# Altium schematic symbol library CPC.SchLib: 10 symbols
Pins are listed as number, name and electrical type; pins without a type are passive.

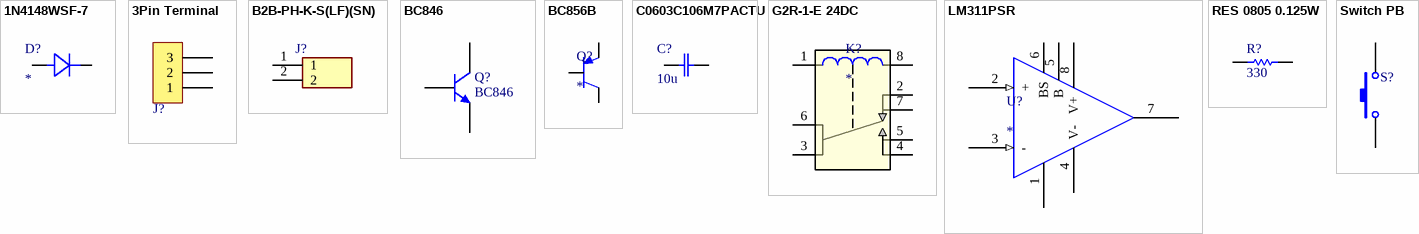
[diagram p0: symbols 1N4148WSF-7 to Switch PB]

## 1N4148WSF-7
designator D?
No Description Available; Mfr_Name: Diodes Inc; ComponentLink1Description: ickala; ComponentLink1URL: https://ickala.com/standard-diode/39398-1n4148ws.html
footprint SOD323F_DIO-L
pins: 1, 2

## 3Pin Terminal
designator J?, comment 2Pin Terminal  (value not drawn)
Terminal; ComponentLink1Description: ickala; ComponentLink1URL: https://ickala.com/pluggable-terminal/44373-%D8%AA%D8%B1%D9%85%DB%8C%D9%86%D8%A7%D9%84-2-%D9%BE%DB%8C%DA%86.html
footprint KF301 2PIN (Designer Abbas Basereh)
pins: 1, 2, 3

## B2B-PH-K-S(LF)(SN)
designator J?  (value not drawn)
Connector Header Through Hole 2 position 0.079 (2.00mm); MF: JST; MP: B2B-PH-K-S (LF)(SN); SnapEDA_Link: https://www.snapeda.com/parts/B2B-PH-K-S%20(LF)(SN)/JST/view-part/?ref=snap; Package: None; Value: *; Check_prices: https://www.snapeda.com/parts/B2B-PH-K-S%20(LF)(SN)/JST/view-part/?ref=eda
footprint JST_B2B-PH-K-S(LF)(SN)
pins: 1, 2

## BC846
designator Q?
NPN General-purpose Transistor; Published: 2017-1-6; LatestRevisionDate: 12-Dec-2006; LatestRevisionNote: IPC-7351 Footprint Added.; DatasheetVersion: 4-Feb-2002; PackageVersion: 2017-1-6; PackageReference: SOT23; Publisher: Abbas Basereh; PackageDescription: 3-Pin SOT-23 Package 0.95 mm Pitch, 2.3 mm Lead Span; ComponentLink1Description: Manufacturer Link; ComponentLink1URL: http://www.semiconductors.philips.com/; ComponentLink2Description: Datasheet; ComponentLink2URL: http://www.semiconductors.philips.com/acrobat/datasheets/BC846_BC847_BC848_5.pdf
footprint SOT23_N (SOT23, 3-Leads, Body 2.9x1.3mm, Pitch 0.95mm, Lead Span 2.3mm, IPC Medium Density)
pins: 1 B, 2 E, 3 C

## BC856B
designator Q?
Bipolar (BJT) Transistor Array 2 PNP (Dual) 65V 100mA 100MHz 300mW Surface Mount 6-TSSOP; MF: Nexperia USA; MP: BC856B; SnapEDA_Link: https://www.snapeda.com/parts/BC856B/Nexperia/view-part/?ref=snap; Package: SOT-23-3 Motorola; Value: *; Check_prices: https://www.snapeda.com/parts/BC856B/Nexperia/view-part/?ref=eda
footprint SOT95P230X110-3N
pins: 1 B, 2 E, 3 C

## C0603C106M7PACTU
designator C?, comment 10u
No Description Available; Mfr_Name: Kemet; ComponentLink1Description: ickala; ComponentLink1URL: https://ickala.com/cap-smd-0603/17293-c10uf50vs0603.html
footprint CAPC180100_90N_KEM-M
pins: 1, 2

## G2R-1-E 24DC
designator K?
No Description Available; Mfr_Name: Omron; RefDes: RefDes; Type: Type
footprint RELAY_G2R-1-E_OMR
pins: 1, 2, 3, 4, 5, 6, 7, 8

## LM311PSR
designator U?
No Description Available; Mfr_Name: Texas Instruments; RefDes: RefDes; Type: Type; ComponentLink1Description: ic kala; ComponentLink1URL: https://ickala.com/ic-comarators/24740-lm311dr.html
footprint SO-8_STM-L
pins: 1 EMITOUT (power), 2 + (in), 3 - (in), 4 V- (power), 5 B, 6 BS, 7 COLOUT (oc), 8 V+ (power)

## RES 0805 0.125W
designator R?, comment 330
RES 0805; Designer: Abbas Basereh; Desc.: RES SMD 0805; Data: 16-12-2016
footprint RESC3413X04N (Chip Resistor, 2-Leads, Body 3/40x1/30mm, IPC Medium Density-Design:Abbas Basereh)
pins: 1, 2

## Switch PB
designator S?, comment Zero  (value not drawn)
Push Button Switch
footprint Switch - Push to On
pins: 1, 2